# EAGLE library part D3A (library wheat)
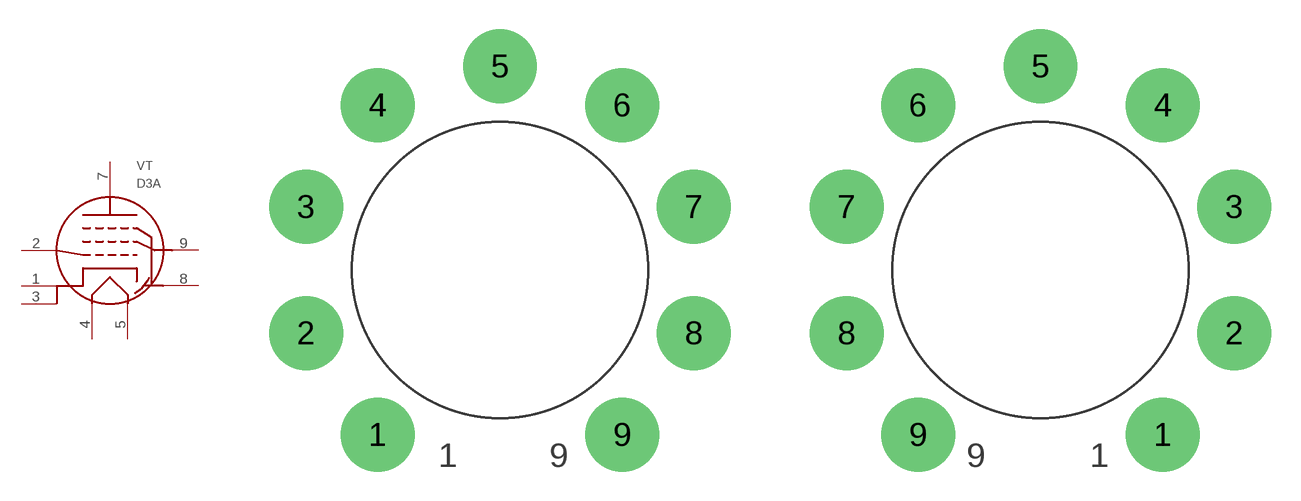
[diagram p258: symbol with the pads of NOVAL_BOTTOM_PCB; footprints NOVAL_BOTTOM_PCB, NOVAL_PCB]

Designator prefix VT

## D3A_BOTTOM  [NOVAL_BOTTOM_PCB]
1  K  pas
2  G1  pas
3  K1  pas
4  H1  pas
5  H2  pas
7  P  pas
8  G3S  pas
9  G2  pas

## D3A_TOP  [NOVAL_PCB]
1  K  pas
2  G2  pas
3  K1  pas
4  H1  pas
5  H2  pas
7  P  pas
8  G3S  pas
9  G1  pas

## D3A_PINS  [NOVAL_BOTTOM_PINS]
Pads as for NOVAL_BOTTOM_PCB

## Footprint NOVAL_BOTTOM_PCB (pad centres in mm)
drill 1.93 pad 3.81: 1 -6.299,-8.484; 2 -9.982,-3.251; 3 -9.982,3.251; 4 -6.299,8.484; 5 0,10.49; 6 6.299,8.484; 7 9.982,3.251; 8 9.982,-3.251; 9 6.299,-8.484

## Footprint NOVAL_PCB (pad centres in mm)
TUBE SOCKET, NOVAL PCB
drill 1.93 pad 3.81: 1 6.299,-8.484; 2 9.982,-3.251; 3 9.982,3.251; 4 6.299,8.484; 5 0,10.49; 6 -6.299,8.484; 7 -9.982,3.251; 8 -9.982,-3.251; 9 -6.299,-8.484

## Footprint NOVAL_BOTTOM_PINS (pad centres in mm)
drill 1.905 pad 2.54 offset: 1 -3.493,-4.808; 2 -5.652,-1.836; 3 -5.652,1.836; 4 -3.493,4.808; 5 0,5.944; 6 3.493,4.808; 7 5.652,1.836; 8 5.652,-1.836
drill 1.905 pad 2.184 offset: 9 3.493,-5.037
hole 5.08 at 0,0